# Altium schematic symbol library S 三极管.SCHLIB: 7 symbols
Pins are listed as number, name and electrical type; pins without a type are passive.

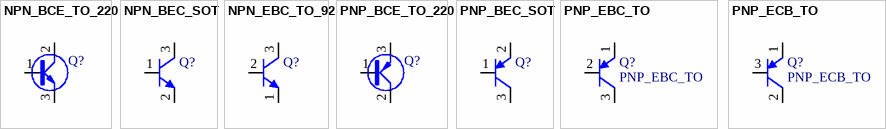
[diagram p0: symbols NPN_BCE_TO_220 to PNP_ECB_TO]

## NPN_BCE_TO_220
designator Q?
pins: 1 B, 2 C, 3 E

## NPN_BEC_SOT
designator Q?
pins: 1 B, 2 E, 3 C

## NPN_EBC_TO_92
designator Q?
footprint TO-92 (TO, Flat Index; 3 In-Line, Axial Leads; Body Dia. 4.8mm)
pins: 1 E, 2 B, 3 C

## PNP_BCE_TO_220
designator Q?
pins: 1 B, 2 C, 3 E

## PNP_BEC_SOT
designator Q?
pins: 1 B, 2 E, 3 C

## PNP_EBC_TO
designator Q?
pins: 1 E, 2 B, 3 C

## PNP_ECB_TO
designator Q?
pins: 1 E, 2 C, 3 B